# EAGLE library part NR01105ANG13-2C (library NR01105ANG13-2C)
NKK SWITCHES - NR01105ANG13-2C - ROTARY SWITCH, SP5T, 0.4VA, 28VAC/DC, TH Source: Datasheet <https://componentsearchengine.com/Datasheets/1/NR01105ANG13-2C.pdf>
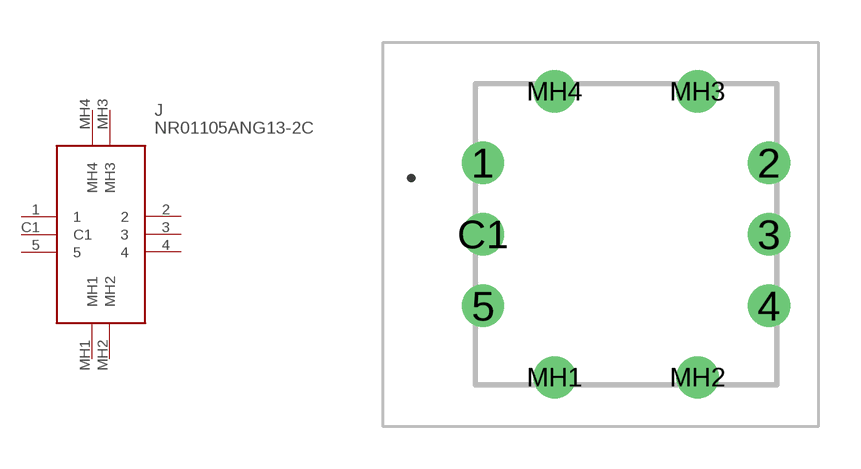
[diagram p0: symbol with the pads of NR01105ANG132C; footprint NR01105ANG132C]

Designator prefix J

## NR01105ANG13-2C (Description: NKK SWITCHES - NR01105ANG13-2C - ROTARY SWITCH, SP5T, 0.4VA, 28VAC/DC, TH; Height: 17.2mm; Manufacturer_Name: NKK Switches; Manufacturer_Part_Number: NR01105ANG13-2C; Mouser_Part_Number: 633-NR01105ANG13-2C; Mouser_Price-Stock: https://www.mouser.co.uk/ProductDetail/NKK-Switches/NR01105ANG13-2C?qs=EU6FO9ffTwe1KMswS2eoPA%3D%3D)  [NR01105ANG132C]
1  1
2  2
3  3
4  4
5  5
C1  C1
MH1  MH1
MH2  MH2
MH3  MH3
MH4  MH4

## Footprint NR01105ANG132C (pad centres in mm)
NR01105ANG13-2C-1
drill 1 pad 1.5: 1 0,0; 2 10.16,0; 3 10.16,-2.54; 4 10.16,-5.08; 5 0,-5.08; C1 0,-2.54; MH1 2.54,-7.62; MH2 7.62,-7.62; MH3 7.62,2.54; MH4 2.54,2.54